# Altium schematic symbol library AD5314 10 Bit ADC.SchLib: 1 symbol
Pins are listed as number, name and electrical type; pins without a type are passive.

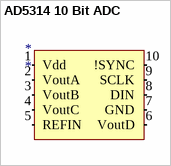
[diagram p0: symbol AD5314 10 Bit ADC]

## AD5314 10 Bit ADC
designator *
pins: 1 Vdd (in), 2 VoutA (in), 3 VoutB (in), 4 VoutC (in), 5 REFIN (in), 6 VoutD (in), 7 GND (in), 8 DIN (in), 9 SCLK (in), 10 !SYNC (in)